# EAGLE library part TPS610XX (library launchpad_bp)
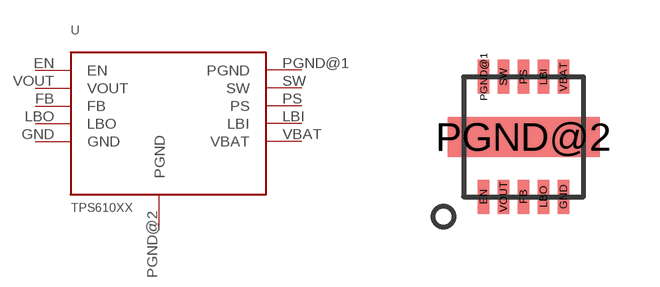
[diagram p4: symbol with the pads of TPS610XX; footprint TPS610XX]

Designator prefix -

## TPS610XX  [TPS610XX]
EN  EN  in
FB  FB  pas
GND  GND  pwr
LBI  LBI  pas
LBO  LBO  pas
PGND@1  PGND  pas
PGND@2  PGND  pwr
PS  PS  in
SW  SW  in
VBAT  VBAT  pwr
VOUT  VOUT  pwr

## Footprint TPS610XX (pad centres in mm)
smd 0.28 x 0.85: EN -1,-1.5; FB 0,-1.5; GND 1,-1.5; LBI 0.5,1.5; LBO 0.5,-1.5; PGND@1 -1,1.5; PS 0,1.5; SW -0.5,1.5; VBAT 1,1.5; VOUT -0.5,-1.5
smd 3.8 x 1: PGND@2 0,0